# EAGLE library part 691319510016 (library Wurth_Connectors_WR-TBL Pluggable Connector)
WR-TBL Serie 3195 - 5.08 mm Double Level Horizontal Male PCB Header w. closed Flanges KIND PROPERTIES Pitch 5.08 mm MATERIAL PROPERTIES Insulator Material PA66 Insulator Flammability Rating UL94 V-0 Contact Material Brass Contact Plating Tin GENERAL INFORMATION Operating Temperature -40 up to +105 °C Compliance RoHS ELECTRICAL PROPERTIES IR UL 10 A Working Voltage [UL] 300 V (AC) Withstanding Voltage [cULus] 1600 V (AC) Contact Resistance [cULus] 20 mΩ CERTIFICATION cULus Approval E315414 <https://www.we-online.com/catalog/media/o33273v209%20Family_WR-TBL_6913195100xx.jpg> Details see: https://www.we-online.com/catalog/en/TBL_5_08_3195_DOUBLE_LEVEL_HORIZONTAL_MALE_PCB_HEADER_W_CLOSED_FLANGES_6913195100XX/ Updated by Ella Wu 2019-12-26 2022(C) Wurth Elektronik
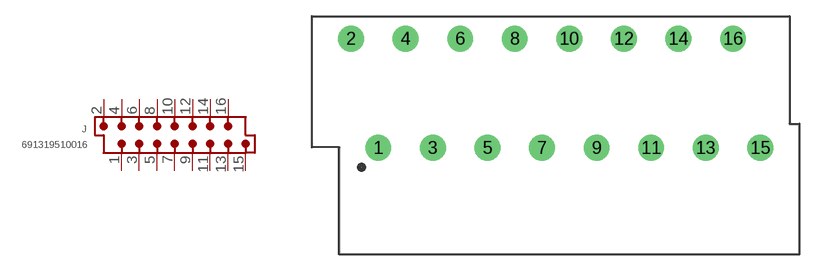
[diagram p324: symbol with the pads of 691319510016; footprint 691319510016]

Designator prefix J

## 691319510016 (DATASHEET-URL: https://www.we-online.com/redexpert/spec/691319510016?ae; IR-UL: 10A; MOUNT: THT; PART-NUMBER: 691319510016; PINS: 16; PITCH: 5.08mm; TYPE: Double Level Horizontal; VALUE: 691319510016; WORKING-VOLTAGE-UL: 300V (AC))  [691319510016]
1  1  pas
2  2  pas
3  3  pas
4  4  pas
5  5  pas
6  6  pas
7  7  pas
8  8  pas
9  9  pas
10  10  pas
11  11  pas
12  12  pas
13  13  pas
14  14  pas
15  15  pas
16  16  pas

## Footprint 691319510016 (pad centres in mm)
WR-TBL Serie 3195 - 5.08 mm Double Level Horizontal Male PCB Header w. closed Flanges Max Height = 23.7mm , Pitch 5.08mm , 16pins
drill 1.6: 1 -17.78,0; 2 -20.32,10.16; 3 -12.7,0; 4 -15.24,10.16; 5 -7.62,0; 6 -10.16,10.16; 7 -2.54,0; 8 -5.08,10.16; 9 2.54,0; 10 0,10.16; 11 7.62,0; 12 5.08,10.16; 13 12.7,0; 14 10.16,10.16; 15 17.78,0; 16 15.24,10.16